# Altium integrated library Xilinx Aerospace and Defense.IntLib: 197 symbols (part 43 of 56)
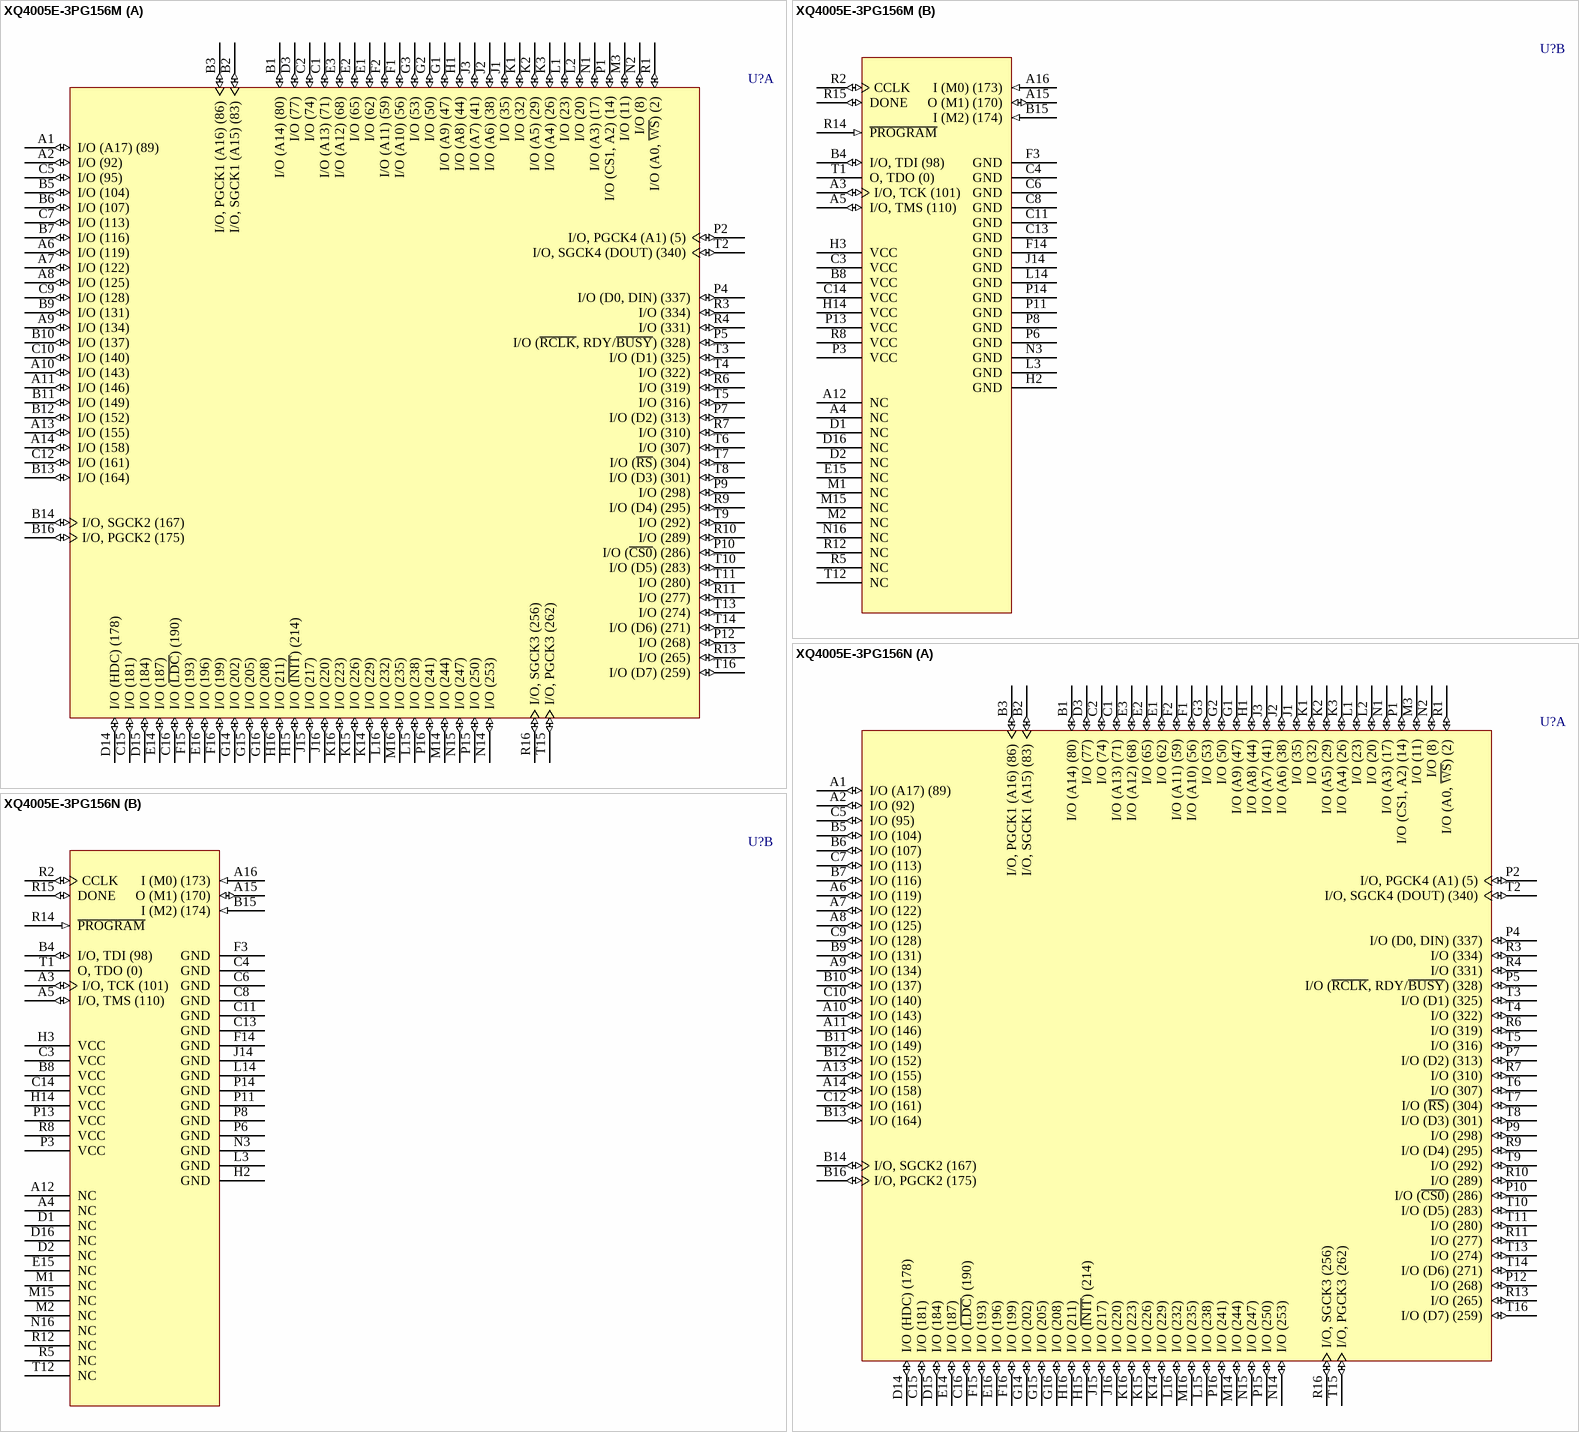
[diagram p450: symbols XQ4005E-3PG156M to XQ4005E-3PG156N]

## XQ4005E-3PG156M
designator U?
QPro XQ4005E QML 5V High-Reliability FPGA, 112 I/Os, 156-Pin Ceramic PGA, Speed Grade 3, Military Ceramic Temperature Grade; Published: 17-Nov-2009; DatasheetVersion: ver2.2, Jun-2000; PackageVersion: ver1.1, Apr-2001; PackageReference: PG156; Publisher: Altium Limited; PackageDescription: 156-Pin Ceramic Pin Grid Array (PG156); Code_JEDEC: MO-067-AH; ComponentLink1Description: QPRO XQ4000E/EX Datasheet; ComponentLink1URL: http://www.xilinx.com/support/documentation/data_sheets/ds021.pdf; ComponentLink2Description: PG156 Package Drawing; ComponentLink2URL: http://www.xilinx.com/support/documentation/package_specs/pg156.pdf; ComponentLink3Description: Xilinx.com Home; ComponentLink3URL: http://www.xilinx.com
footprint PG156 (PGA, 156-Leads, Body 42x42mm, Pitch 2.54mm)
signal-integrity model XQ4005E_PG156 (XC-Series)
part A pins: A1 I/O (A17) (89) (io), A2 I/O (92) (io), A6 I/O (119) (io), A7 I/O (122) (io), A8 I/O (125) (io), A9 I/O (134) (io), A10 I/O (143) (io), A11 I/O (146) (io), A13 I/O (155) (io), A14 I/O (158) (io), B1 I/O (A14) (80) (io), B2 I/O, SGCK1 (A15) (83) (io), B3 I/O, PGCK1 (A16) (86) (io), B5 I/O (104) (io), B6 I/O (107) (io), B7 I/O (116) (io), B9 I/O (131) (io), B10 I/O (137) (io), B11 I/O (149) (io), B12 I/O (152) (io), B13 I/O (164) (io), B14 I/O, SGCK2 (167) (io), B16 I/O, PGCK2 (175) (io), C1 I/O (A13) (71) (io), C2 I/O (74) (io), C5 I/O (95) (io), C7 I/O (113) (io), C9 I/O (128) (io), C10 I/O (140) (io), C12 I/O (161) (io), C15 I/O (181) (io), C16 I/O (~{LDC}) (190) (io), D3 I/O (77) (io), D14 I/O (HDC) (178) (io), D15 I/O (184) (io), E1 I/O (62) (io), E2 I/O (65) (io), E3 I/O (A12) (68) (io), E14 I/O (187) (io), E16 I/O (196) (io), F1 I/O (A10) (56) (io), F2 I/O (A11) (59) (io), F15 I/O (193) (io), F16 I/O (199) (io), G1 I/O (A9) (47) (io), G2 I/O (50) (io), G3 I/O (53) (io), G14 I/O (202) (io), G15 I/O (205) (io), G16 I/O (208) (io), H1 I/O (A8) (44) (io), H15 I/O (~{INIT}) (214) (io), H16 I/O (211) (io), J1 I/O (35) (io), J2 I/O (A6) (38) (io), J3 I/O (A7) (41) (io), J15 I/O (217) (io), J16 I/O (220) (io), K1 I/O (32) (io), K2 I/O (A5) (29) (io), K3 I/O (A4) (26) (io), K14 I/O (229) (io), K15 I/O (226) (io), K16 I/O (223) (io), L1 I/O (23) (io), L2 I/O (20) (io), L15 I/O (238) (io), L16 I/O (232) (io), M3 I/O (11) (io), M14 I/O (244) (io), M16 I/O (235) (io), N1 I/O (A3) (17) (io), N2 I/O (8) (io), N14 I/O (253) (io), N15 I/O (247) (io), P1 I/O (CS1, A2) (14) (io), P2 I/O, PGCK4 (A1) (5) (io), P4 I/O (D0, DIN) (337) (io), P5 I/O (~{RCLK}, RDY/~{BUSY}) (328) (io), P7 I/O (D2) (313) (io), P9 I/O (298) (io), P10 I/O (~{CS0}) (286) (io), P12 I/O (268) (io), P15 I/O (250) (io), P16 I/O (241) (io), R1 I/O (A0, ~{WS}) (2) (io), R3 I/O (334) (io), R4 I/O (331) (io), R6 I/O (319) (io), R7 I/O (310) (io), R9 I/O (D4) (295) (io), R10 I/O (289) (io), R11 I/O (277) (io), R13 I/O (265) (io), R16 I/O, SGCK3 (256) (io), T2 I/O, SGCK4 (DOUT) (340) (io), T3 I/O (D1) (325) (io), T4 I/O (322) (io), T5 I/O (316) (io), T6 I/O (307) (io), T7 I/O (~{RS}) (304) (io), T8 I/O (D3) (301) (io), T9 I/O (292) (io), T10 I/O (D5) (283) (io), T11 I/O (280) (io), T13 I/O (274) (io), T14 I/O (D6) (271) (io), T15 I/O, PGCK3 (262) (io), T16 I/O (D7) (259) (io)
part B pins: A3 I/O, TCK (101) (io), A4 NC, A5 I/O, TMS (110) (io), A12 NC, A15 O (M1) (170) (io), A16 I (M0) (173) (in), B4 I/O, TDI (98) (io), B8 VCC (power), B15 I (M2) (174) (in), C3 VCC (power), C4 GND (power), C6 GND (power), C8 GND (power), C11 GND (power), C13 GND (power), C14 VCC (power), D1 NC, D2 NC, D16 NC, E15 NC, F3 GND (power), F14 GND (power), H2 GND (power), H3 VCC (power), H14 VCC (power), J14 GND (power), L3 GND (power), L14 GND (power), M1 NC, M2 NC, M15 NC, N3 GND (power), N16 NC, P3 VCC (power), P6 GND (power), P8 GND (power), P11 GND (power), P13 VCC (power), P14 GND (power), R2 CCLK (io), R5 NC, R8 VCC (power), R12 NC, R14 ~{PROGRAM} (in), R15 DONE (io), T1 O, TDO (0) (hiz), T12 NC